# Altium footprint library 1-1734592-0.PcbLib: 1 footprints
Each footprint in its own frame and in the unit in brackets; x right, y up, seen from the top. Pads: shape width x height; smd on the part's side, far side on the other; paste and mask are expansions set on the pad; w line width, h text height; cw(c..) or ccw(c..) is an arc to the next point about the centre after c.
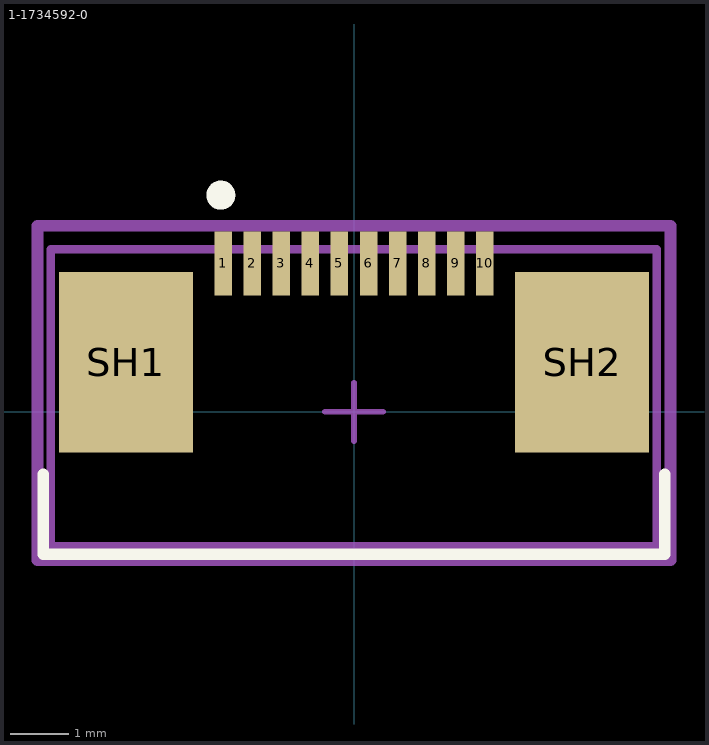
[diagram p0: the footprint, top view; thin cyan lines are the x and y axes]

## 1-1734592-0 [mm] "TE Connectivity FC / FPC Board Connector, 0.5 mm, 10 Contacts, Receptacle, FPC Series, Surface Mount, Bottom"
pads (12):
  rect 0.3x1.1 smd paste+0 mask+0: 1(-2.25,2.55) 2(-1.75,2.55) 3(-1.25,2.55) 4(-0.75,2.55) 5(-0.25,2.55) 6(0.25,2.55) 7(0.75,2.55) 8(1.25,2.55) 9(1.75,2.55) 10(2.25,2.55)
  rect 2.3x3.1 smd paste+0 mask+0: SH1(-3.92,0.85) SH2(3.92,0.85)
Top Overlay:
  circle w0.25: c-2.29,3.725 r0.125
  lines w0.2: -5.34,-1.075 -5.34,-2.45 5.34,-2.45 5.34,-1.075
Top Assembly:
  lines w0.15: -5.215,-2.316 -5.215,2.794 5.207,2.794 5.207,-2.316 -5.215,-2.316
Top Courtyard:
  lines w0.1: -0.5,0 0.5,0 ; 0,-0.5 0,0.5
  lines w0.2: -5.44,-2.55 -5.44,3.2 5.44,3.2 5.44,-2.55 -5.44,-2.55
3D body "c-1-1734592-0-c-3d.stp": height 2.05, standoff 0, extent -5.215,-2.316 5.215,2.794